# EAGLE library part HDR_2X07X100 (library DSP_PID)
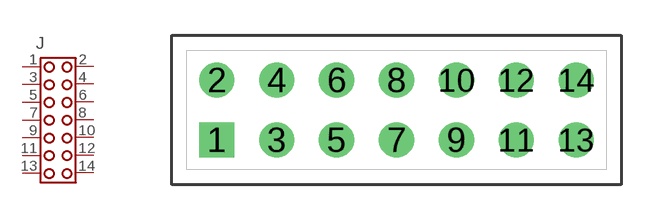
[diagram p4: symbol with the pads of 2X07X0.100_HDR; footprint 2X07X0.100_HDR]

Designator prefix J

## HDR_2X07X100 (MFG: 3M; MPN: 961214-6404-AR; PRICE: 1.66; VENDOR: DIGIKEY; VPN: 3M9466-14-ND)  [2X07X0.100_HDR]
1  1  pas
2  2  pas
3  3  pas
4  4  pas
5  5  pas
6  6  pas
7  7  pas
8  8  pas
9  9  pas
10  10  pas
11  11  pas
12  12  pas
13  13  pas
14  14  pas

## Footprint 2X07X0.100_HDR (pad centres in mm)
drill 0.991 square: 1 0,-2.54
drill 0.991 round: 2 0,0; 3 2.54,-2.54; 4 2.54,0; 5 5.08,-2.54; 6 5.08,0; 7 7.62,-2.54; 8 7.62,0; 9 10.16,-2.54; 10 10.16,0; 11 12.7,-2.54; 12 12.7,0; 13 15.24,-2.54; 14 15.24,0